# EAGLE library part ICLM567 (library chuong)
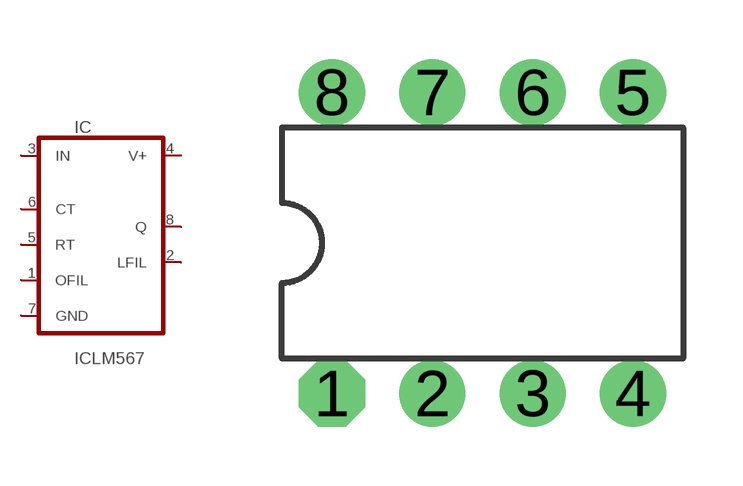
[diagram p59: symbol with the pads of DIL-8; footprint DIL-8]

Designator prefix IC

## ICLM567  [DIL-8]
1  OFIL  out
2  LFIL  pas
3  IN  in
4  V+  pwr
5  RT  pas
6  CT  pas
7  GND  pwr
8  Q  out

## Footprint DIL-8 (pad centres in mm)
drill 0.61 pad 1.676 octagon: 1 -3.81,-3.81
drill 0.61 pad 1.676 round: 2 -1.27,-3.81; 3 1.27,-3.81; 4 3.81,-3.81; 5 3.81,3.81; 6 1.27,3.81; 7 -1.27,3.81; 8 -3.81,3.81